# EAGLE library part NPC1100B (library nxp_60_1_1)
Low Cost Narrow Band Communication Controller The ASIC DLC-3 is a low cost narrow band communication controller MCM (Multi Carrier Modulation) and power line chip. The integrated ARMÒ CortexTM CPU, memory and common interfaces makes it possible to build different systems with a minimum of external components. For communication with DLC-3 the most popular interfaces like Ethernet MII, SPI, several freely configurable serial interfaces and general IO ports for CPU and DSC are included. The ASIC includes all components for a power-line communication while Analog Front End and Power Amplifier are already integrated. With its On-Chip Power-Factor-Correction, Ballast Control and 4 PWM outputs the LCI is a optimal solution for lighting control units. The freely configurable serial interfaces makes it easy to build electronic power meters for smart-metering applications. AAL Eindhoven MK
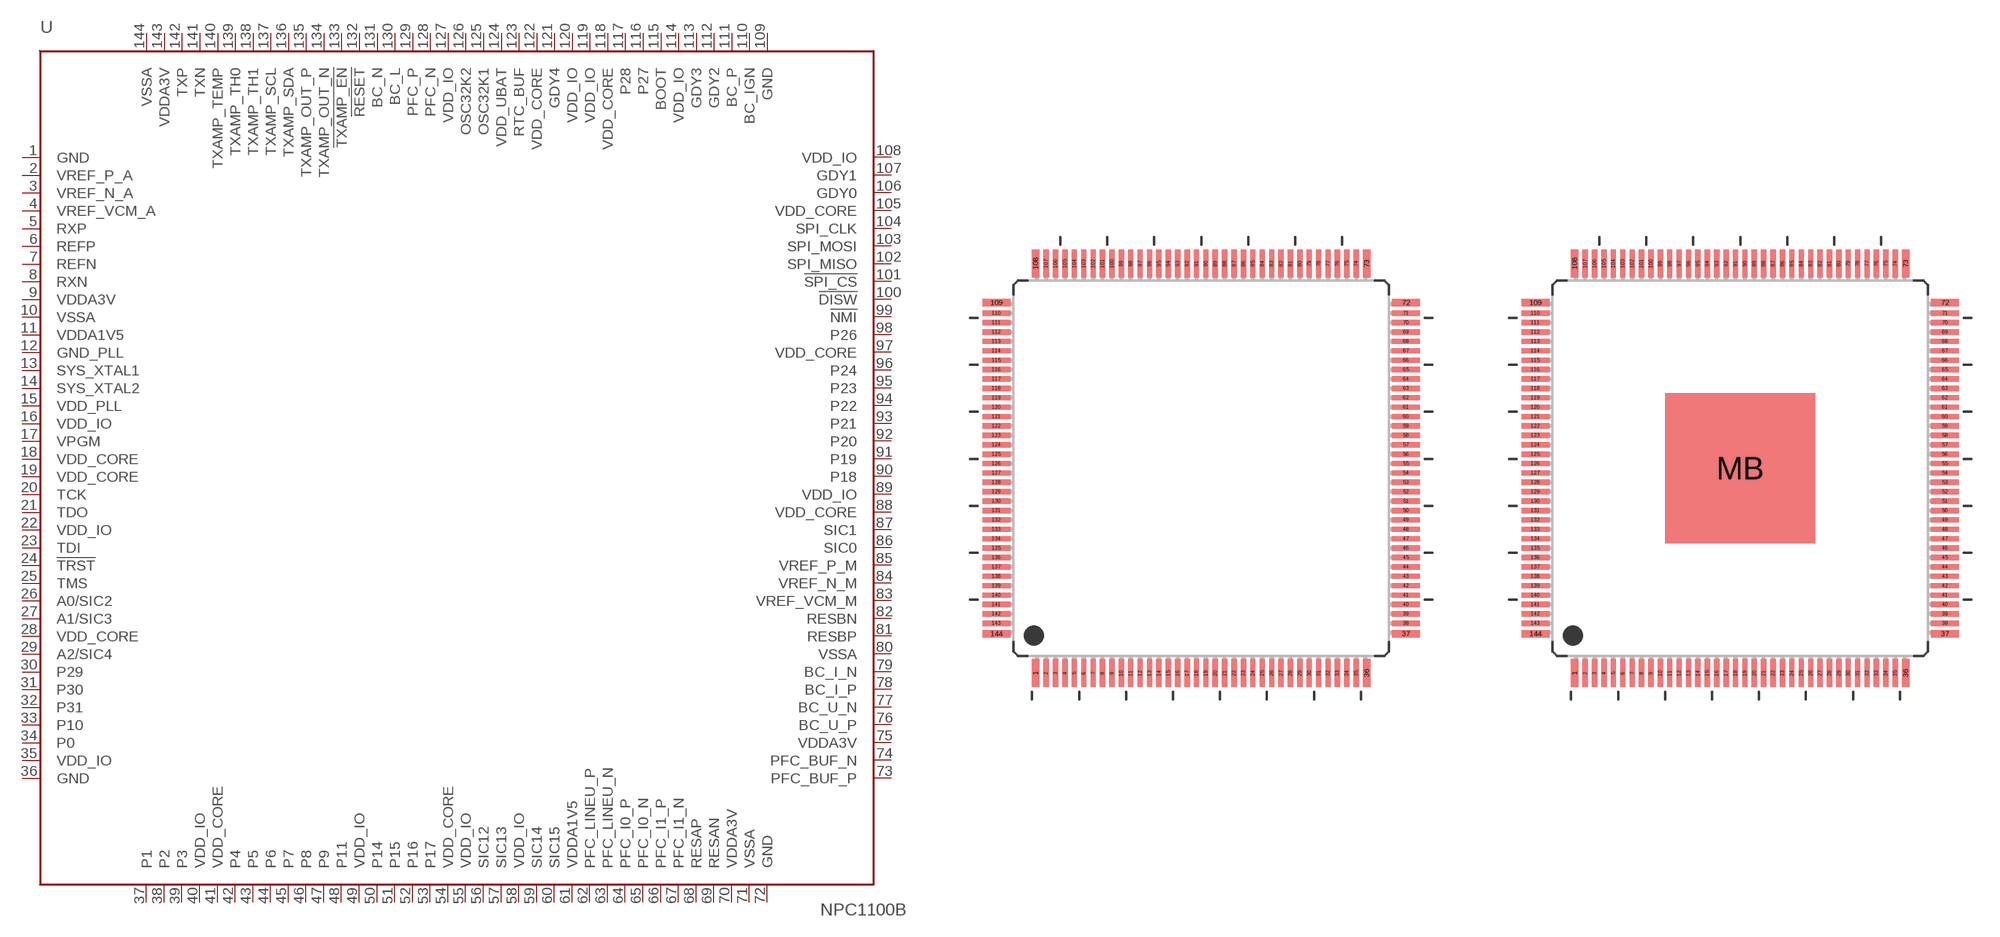
[diagram p90: symbol with the pads of SOT486-1; footprints SOT486-1, SOT486-1MK]

Designator prefix U

## NPC1100B  [SOT486-1]
1  GND
2  VREF_P_A
3  VREF_N_A
4  VREF_VCM_A
5  RXP
6  REFP
7  REFN
8  RXN
9  VDDA3V
10  VSSA
11  VDDA1V5
12  GND_PLL
13  SYS_XTAL1
14  SYS_XTAL2
15  VDD_PLL
16  VDD_IO
17  VPGM
18  VDD_CORE
19  VDD_CORE
20  TCK
21  TDO
22  VDD_IO
23  TDI
24  !TRST!
25  TMS
26  A0/SIC2
27  A1/SIC3
28  VDD_CORE
29  A2/SIC4
30  P29
31  P30
32  P31
33  P10
34  P0
35  VDD_IO
36  GND
37  P1
38  P2
39  P3
40  VDD_IO
41  VDD_CORE
42  P4
43  P5
44  P6
45  P7
46  P8
47  P9
48  P11
49  VDD_IO
50  P14
51  P15
52  P16
53  P17
54  VDD_CORE
55  VDD_IO
56  SIC12
57  SIC13
58  VDD_IO
59  SIC14
60  SIC15
61  VDDA1V5
62  PFC_LINEU_P
63  PFC_LINEU_N
64  PFC_I0_P
65  PFC_I0_N
66  PFC_I1_P
67  PFC_I1_N
68  RESAP
69  RESAN
70  VDDA3V
71  VSSA
72  GND
73  PFC_BUF_P
74  PFC_BUF_N
75  VDDA3V
76  BC_U_P
77  BC_U_N
78  BC_I_P
79  BC_I_N
80  VSSA
81  RESBP
82  RESBN
83  VREF_VCM_M
84  VREF_N_M
85  VREF_P_M
86  SIC0
87  SIC1
88  VDD_CORE
89  VDD_IO
90  P18
91  P19
92  P20
93  P21
94  P22
95  P23
96  P24
97  VDD_CORE
98  P26
99  !NMI!
100  !DISW!
101  !SPI_CS!
102  SPI_MISO
103  SPI_MOSI
104  SPI_CLK
105  VDD_CORE
106  GDY0
107  GDY1
108  VDD_IO
109  GND
110  BC_IGN
111  BC_P
112  GDY2
113  GDY3
114  VDD_IO
115  BOOT
116  P27
117  P28
118  VDD_CORE
119  VDD_IO
120  VDD_IO
121  GDY4
122  VDD_CORE
123  RTC_BUF
124  VDD_UBAT
125  OSC32K1
126  OSC32K2
127  VDD_IO
128  PFC_N
129  PFC_P
130  BC_L
131  BC_N
132  !RESET!
133  !TXAMP_EN!
134  TXAMP_OUT_N
135  TXAMP_OUT_P
136  TXAMP_SDA
137  TXAMP_SCL
138  TXAMP_TH1
139  TXAMP_TH0
140  TXAMP_TEMP
141  TXN
142  TXP
143  VDDA3V
144  VSSA

## NPC1100BCP  [SOT486-1MK]
1  GND
2  VREF_P_A
3  VREF_N_A
4  VREF_VCM_A
5  RXP
6  REFP
7  REFN
8  RXN
9  VDDA3V
10  VSSA
11  VDDA1V5
12  GND_PLL
13  SYS_XTAL1
14  SYS_XTAL2
15  VDD_PLL
16  VDD_IO
17  VPGM
18  VDD_CORE
19  VDD_CORE
20  TCK
21  TDO
22  VDD_IO
23  TDI
24  !TRST!
25  TMS
26  A0/SIC2
27  A1/SIC3
28  VDD_CORE
29  A2/SIC4
30  P29
31  P30
32  P31
33  P10
34  P0
35  VDD_IO
36  GND
37  P1
38  P2
39  P3
40  VDD_IO
41  VDD_CORE
42  P4
43  P5
44  P6
45  P7
46  P8
47  P9
48  P11
49  VDD_IO
50  P14
51  P15
52  P16
53  P17
54  VDD_CORE
55  VDD_IO
56  SIC12
57  SIC13
58  VDD_IO
59  SIC14
60  SIC15
61  VDDA1V5
62  PFC_LINEU_P
63  PFC_LINEU_N
64  PFC_I0_P
65  PFC_I0_N
66  PFC_I1_P
67  PFC_I1_N
68  RESAP
69  RESAN
70  VDDA3V
71  VSSA
72  GND
73  PFC_BUF_P
74  PFC_BUF_N
75  VDDA3V
76  BC_U_P
77  BC_U_N
78  BC_I_P
79  BC_I_N
80  VSSA
81  RESBP
82  RESBN
83  VREF_VCM_M
84  VREF_N_M
85  VREF_P_M
86  SIC0
87  SIC1
88  VDD_CORE
89  VDD_IO
90  P18
91  P19
92  P20
93  P21
94  P22
95  P23
96  P24
97  VDD_CORE
98  P26
99  !NMI!
100  !DISW!
101  !SPI_CS!
102  SPI_MISO
103  SPI_MOSI
104  SPI_CLK
105  VDD_CORE
106  GDY0
107  GDY1
108  VDD_IO
109  GND
110  BC_IGN
111  BC_P
112  GDY2
113  GDY3
114  VDD_IO
115  BOOT
116  P27
117  P28
118  VDD_CORE
119  VDD_IO
120  VDD_IO
121  GDY4
122  VDD_CORE
123  RTC_BUF
124  VDD_UBAT
125  OSC32K1
126  OSC32K2
127  VDD_IO
128  PFC_N
129  PFC_P
130  BC_L
131  BC_N
132  !RESET!
133  !TXAMP_EN!
134  TXAMP_OUT_N
135  TXAMP_OUT_P
136  TXAMP_SDA
137  TXAMP_SCL
138  TXAMP_TH1
139  TXAMP_TH0
140  TXAMP_TEMP
141  TXN
142  TXP
143  VDDA3V
144  VSSA
MB  GND

## Footprint SOT486-1 (pad centres in mm)
SOT486-1 LQFP144: plastic low profile quad flat package; 144 leads; body 20 x 20 x 1.4 mm JEDEC: MS-026 IEC: 136E23
smd 0.4 x 1.5: 1 -8.81,-10.9; 36 8.81,-10.9; 73 8.81,10.9; 108 -8.81,10.9
smd 0.28 x 1.5: 2 -8.25,-10.9; 3 -7.75,-10.9; 4 -7.25,-10.9; 5 -6.75,-10.9; 6 -6.25,-10.9; 7 -5.75,-10.9; 8 -5.25,-10.9; 9 -4.75,-10.9; 10 -4.25,-10.9; 11 -3.75,-10.9; 12 -3.25,-10.9; 13 -2.75,-10.9; 14 -2.25,-10.9; 15 -1.75,-10.9; 16 -1.25,-10.9; 17 -0.75,-10.9; 18 -0.25,-10.9; 19 0.25,-10.9; 20 0.75,-10.9; 21 1.25,-10.9; 22 1.75,-10.9; 23 2.25,-10.9; 24 2.75,-10.9; 25 3.25,-10.9; 26 3.75,-10.9; 27 4.25,-10.9; 28 4.75,-10.9; 29 5.25,-10.9; 30 5.75,-10.9; 31 6.25,-10.9; 32 6.75,-10.9; 33 7.25,-10.9; 34 7.75,-10.9; 35 8.25,-10.9; 74 8.25,10.9; 75 7.75,10.9; 76 7.25,10.9; 77 6.75,10.9; 78 6.25,10.9; 79 5.75,10.9; 80 5.25,10.9; 81 4.75,10.9; 82 4.25,10.9; 83 3.75,10.9; 84 3.25,10.9; 85 2.75,10.9; 86 2.25,10.9; 87 1.75,10.9; 88 1.25,10.9; 89 0.75,10.9; 90 0.25,10.9; 91 -0.25,10.9; 92 -0.75,10.9; 93 -1.25,10.9; 94 -1.75,10.9; 95 -2.25,10.9; 96 -2.75,10.9; 97 -3.25,10.9; 98 -3.75,10.9; 99 -4.25,10.9; 100 -4.75,10.9; 101 -5.25,10.9; 102 -5.75,10.9; 103 -6.25,10.9; 104 -6.75,10.9; 105 -7.25,10.9; 106 -7.75,10.9; 107 -8.25,10.9
smd 1.5 x 0.4: 37 10.9,-8.81; 72 10.9,8.81; 109 -10.9,8.81; 144 -10.9,-8.81
smd 1.5 x 0.28: 38 10.9,-8.25; 39 10.9,-7.75; 40 10.9,-7.25; 41 10.9,-6.75; 42 10.9,-6.25; 43 10.9,-5.75; 44 10.9,-5.25; 45 10.9,-4.75; 46 10.9,-4.25; 47 10.9,-3.75; 48 10.9,-3.25; 49 10.9,-2.75; 50 10.9,-2.25; 51 10.9,-1.75; 52 10.9,-1.25; 53 10.9,-0.75; 54 10.9,-0.25; 55 10.9,0.25; 56 10.9,0.75; 57 10.9,1.25; 58 10.9,1.75; 59 10.9,2.25; 60 10.9,2.75; 61 10.9,3.25; 62 10.9,3.75; 63 10.9,4.25; 64 10.9,4.75; 65 10.9,5.25; 66 10.9,5.75; 67 10.9,6.25; 68 10.9,6.75; 69 10.9,7.25; 70 10.9,7.75; 71 10.9,8.25; 110 -10.9,8.25; 111 -10.9,7.75; 112 -10.9,7.25; 113 -10.9,6.75; 114 -10.9,6.25; 115 -10.9,5.75; 116 -10.9,5.25; 117 -10.9,4.75; 118 -10.9,4.25; 119 -10.9,3.75; 120 -10.9,3.25; 121 -10.9,2.75; 122 -10.9,2.25; 123 -10.9,1.75; 124 -10.9,1.25; 125 -10.9,0.75; 126 -10.9,0.25; 127 -10.9,-0.25; 128 -10.9,-0.75; 129 -10.9,-1.25; 130 -10.9,-1.75; 131 -10.9,-2.25; 132 -10.9,-2.75; 133 -10.9,-3.25; 134 -10.9,-3.75; 135 -10.9,-4.25; 136 -10.9,-4.75; 137 -10.9,-5.25; 138 -10.9,-5.75; 139 -10.9,-6.25; 140 -10.9,-6.75; 141 -10.9,-7.25; 142 -10.9,-7.75; 143 -10.9,-8.25

## Footprint SOT486-1MK (pad centres in mm)
smd 0.4 x 1.5: 1 -8.81,-10.9; 36 8.81,-10.9; 73 8.81,10.9; 108 -8.81,10.9
smd 0.28 x 1.5: 2 -8.25,-10.9; 3 -7.75,-10.9; 4 -7.25,-10.9; 5 -6.75,-10.9; 6 -6.25,-10.9; 7 -5.75,-10.9; 8 -5.25,-10.9; 9 -4.75,-10.9; 10 -4.25,-10.9; 11 -3.75,-10.9; 12 -3.25,-10.9; 13 -2.75,-10.9; 14 -2.25,-10.9; 15 -1.75,-10.9; 16 -1.25,-10.9; 17 -0.75,-10.9; 18 -0.25,-10.9; 19 0.25,-10.9; 20 0.75,-10.9; 21 1.25,-10.9; 22 1.75,-10.9; 23 2.25,-10.9; 24 2.75,-10.9; 25 3.25,-10.9; 26 3.75,-10.9; 27 4.25,-10.9; 28 4.75,-10.9; 29 5.25,-10.9; 30 5.75,-10.9; 31 6.25,-10.9; 32 6.75,-10.9; 33 7.25,-10.9; 34 7.75,-10.9; 35 8.25,-10.9; 74 8.25,10.9; 75 7.75,10.9; 76 7.25,10.9; 77 6.75,10.9; 78 6.25,10.9; 79 5.75,10.9; 80 5.25,10.9; 81 4.75,10.9; 82 4.25,10.9; 83 3.75,10.9; 84 3.25,10.9; 85 2.75,10.9; 86 2.25,10.9; 87 1.75,10.9; 88 1.25,10.9; 89 0.75,10.9; 90 0.25,10.9; 91 -0.25,10.9; 92 -0.75,10.9; 93 -1.25,10.9; 94 -1.75,10.9; 95 -2.25,10.9; 96 -2.75,10.9; 97 -3.25,10.9; 98 -3.75,10.9; 99 -4.25,10.9; 100 -4.75,10.9; 101 -5.25,10.9; 102 -5.75,10.9; 103 -6.25,10.9; 104 -6.75,10.9; 105 -7.25,10.9; 106 -7.75,10.9; 107 -8.25,10.9
smd 1.5 x 0.4: 37 10.9,-8.81; 72 10.9,8.81; 109 -10.9,8.81; 144 -10.9,-8.81
smd 1.5 x 0.28: 38 10.9,-8.25; 39 10.9,-7.75; 40 10.9,-7.25; 41 10.9,-6.75; 42 10.9,-6.25; 43 10.9,-5.75; 44 10.9,-5.25; 45 10.9,-4.75; 46 10.9,-4.25; 47 10.9,-3.75; 48 10.9,-3.25; 49 10.9,-2.75; 50 10.9,-2.25; 51 10.9,-1.75; 52 10.9,-1.25; 53 10.9,-0.75; 54 10.9,-0.25; 55 10.9,0.25; 56 10.9,0.75; 57 10.9,1.25; 58 10.9,1.75; 59 10.9,2.25; 60 10.9,2.75; 61 10.9,3.25; 62 10.9,3.75; 63 10.9,4.25; 64 10.9,4.75; 65 10.9,5.25; 66 10.9,5.75; 67 10.9,6.25; 68 10.9,6.75; 69 10.9,7.25; 70 10.9,7.75; 71 10.9,8.25; 110 -10.9,8.25; 111 -10.9,7.75; 112 -10.9,7.25; 113 -10.9,6.75; 114 -10.9,6.25; 115 -10.9,5.75; 116 -10.9,5.25; 117 -10.9,4.75; 118 -10.9,4.25; 119 -10.9,3.75; 120 -10.9,3.25; 121 -10.9,2.75; 122 -10.9,2.25; 123 -10.9,1.75; 124 -10.9,1.25; 125 -10.9,0.75; 126 -10.9,0.25; 127 -10.9,-0.25; 128 -10.9,-0.75; 129 -10.9,-1.25; 130 -10.9,-1.75; 131 -10.9,-2.25; 132 -10.9,-2.75; 133 -10.9,-3.25; 134 -10.9,-3.75; 135 -10.9,-4.25; 136 -10.9,-4.75; 137 -10.9,-5.25; 138 -10.9,-5.75; 139 -10.9,-6.25; 140 -10.9,-6.75; 141 -10.9,-7.25; 142 -10.9,-7.75; 143 -10.9,-8.25
smd 8 x 8: MB 0,0